# EAGLE library part MMA7660FC (library xess)
Freescale MMA7660FC Freescale 3-axis orientation/motion sensor.
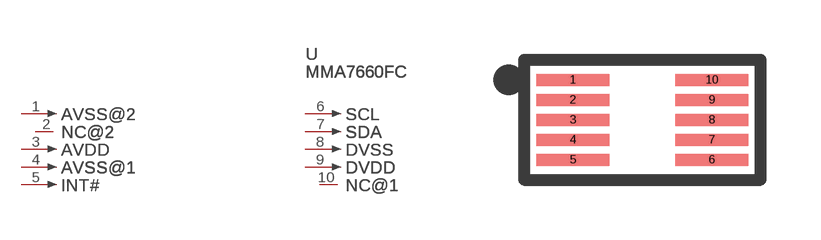
[diagram p152: symbol with the pads of FREESCALE-10_DFN; footprint FREESCALE-10_DFN]

Designator prefix U; gates PART=PV_GATE AVSS@2=PIN_GATE_IN NC@2=PIN_GATE_NC AVDD=PIN_GATE_IN AVSS@1=PIN_GATE_IN INT#=PIN_GATE_IN SCL=PIN_GATE_IN SDA=PIN_GATE_IN DVSS=PIN_GATE_IN DVDD=PIN_GATE_IN NC@1=PIN_GATE_NC

## MMA7660FC-DFN-10  [FREESCALE-10_DFN]
1  AVSS@2:1  in
2  NC@2:1  nc
3  AVDD:1  in
4  AVSS@1:1  in
5  INT#:1  in
6  SCL:1  in
7  SDA:1  in
8  DVSS:1  in
9  DVDD:1  in
10  NC@1:1  nc

## Footprint FREESCALE-10_DFN (pad centres in mm)
Freescale 10-pad DFN
smd 1.825 x 0.3: 1 -0.706,0; 2 -0.706,-0.5; 3 -0.706,-1; 4 -0.706,-1.5; 5 -0.706,-2; 6 2.774,-2; 7 2.774,-1.5; 8 2.774,-1; 9 2.774,-0.5; 10 2.774,0